# Altium footprint library Jumper.PcbLib: 27 footprints (part 1 of 2)
Each footprint in its own frame and in the unit in brackets; x right, y up, seen from the top. Pads: shape width x height; smd on the part's side, far side on the other; paste and mask are expansions set on the pad; w line width, h text height; cw(c..) or ccw(c..) is an arc to the next point about the centre after c.
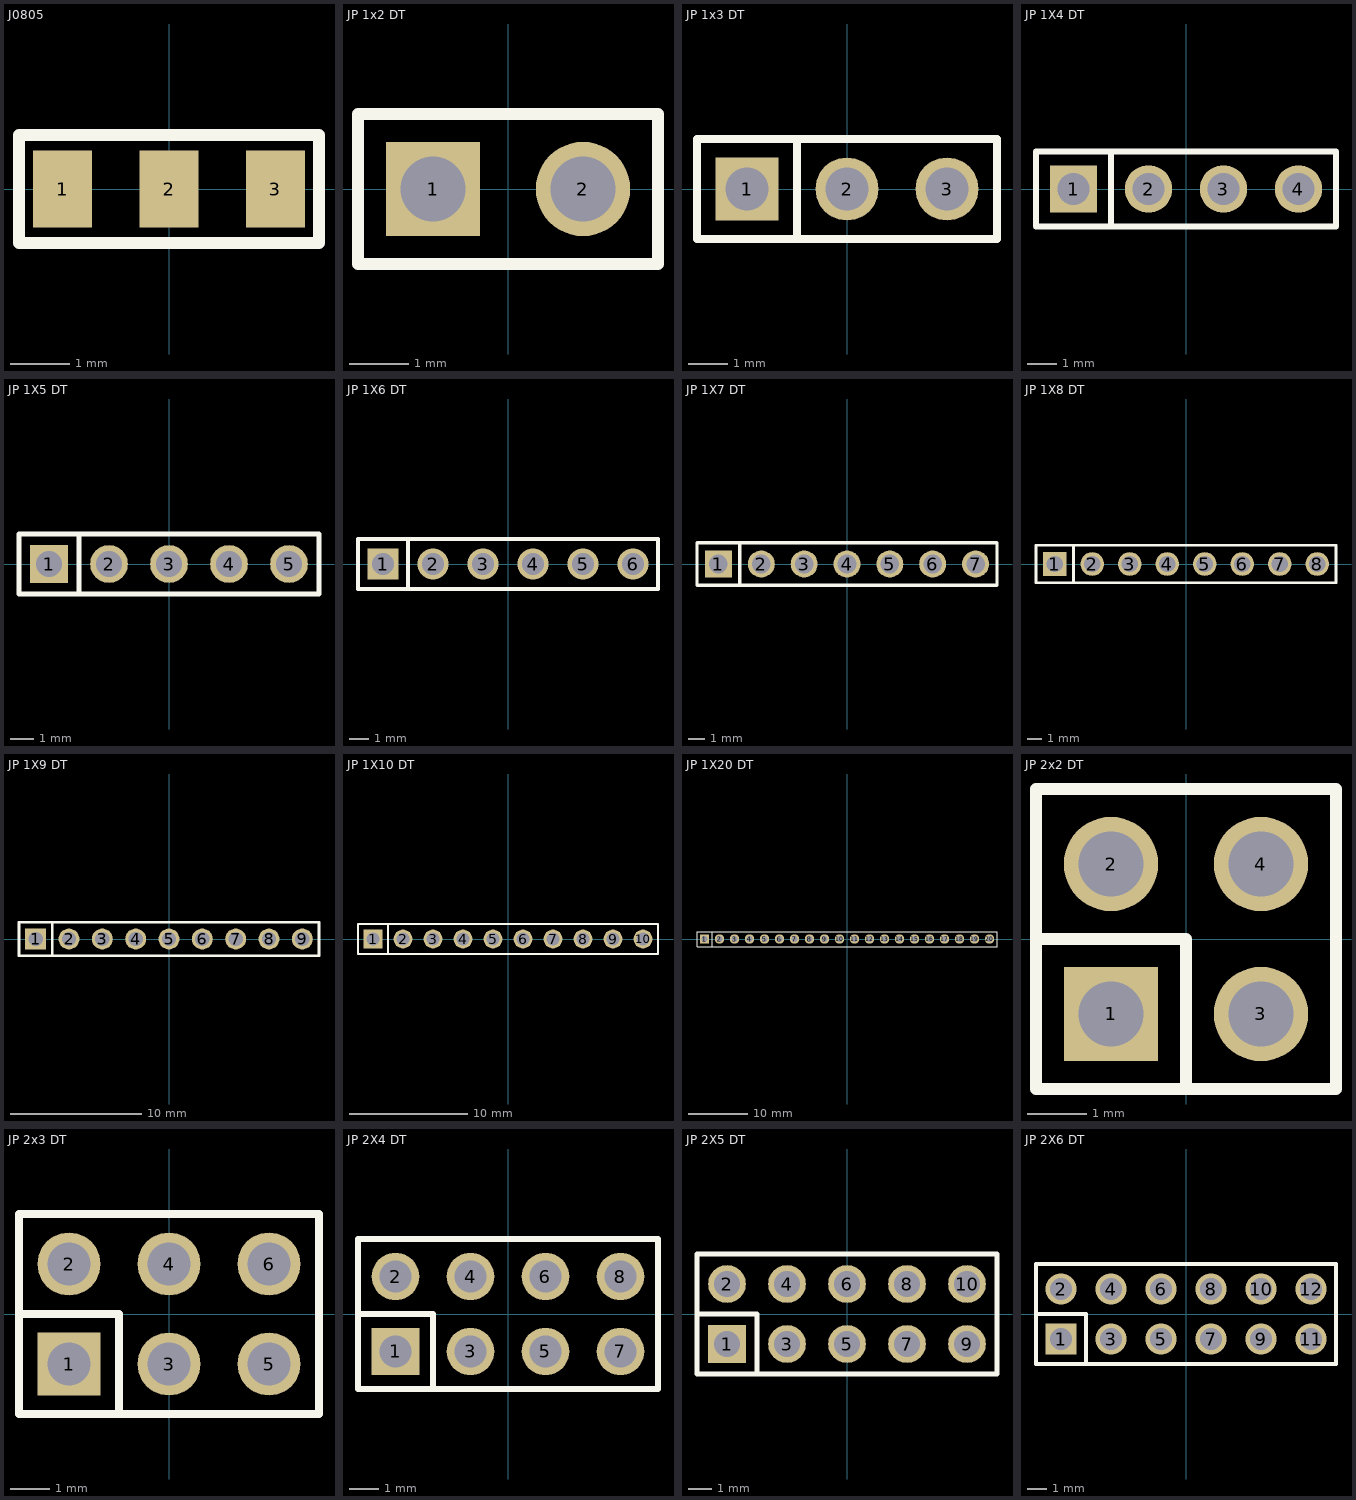
[diagram p0: the footprints below, top view; thin cyan lines are the x and y axes]

## J0805 [mm] "SMD"
pads (3):
  rect 1x1.3 smd: 1(-1.8,0) 2(0,0) 3(1.8,0)
Top Overlay:
  lines w0.203: -2.54,-0.914 2.54,-0.914 2.54,0.914 -2.54,0.914 -2.54,-0.914
3D body "R0805.step": height 0.5, standoff 0, extent -1.9,-0.625 0.1,0.625
3D body "R0805.step": height 0.5, standoff 0, extent -0.1,-0.625 1.9,0.625

## JP 1x2 DT [mm] "2 pins, 1 row, straight, gold plating"
height 8.54
pads (2):
  rect 1.6x1.6 hole 1.1: 1(-1.27,0)
  round 1.6 hole 1.1: 2(1.27,0)
Top Overlay:
  lines w0.2: -2.54,-1.27 2.54,-1.27 2.54,1.27 -2.54,1.27 -2.54,-1.27
3D body "61300211121.stp": height 8.67, standoff -2.87, extent -2.54,-1.27 2.54,1.27

## JP 1x3 DT [mm] "3 pins, 1 row, straight, gold plating"
height 8.54
pads (3):
  rect 1.6x1.6 hole 1.1: 1(-2.54,0)
  round 1.6 hole 1.1: 2(0,0) 3(2.54,0)
Top Overlay:
  lines w0.2: -1.27,-1.27 -1.27,1.27 ; -3.81,-1.27 -3.81,1.27 3.81,1.27 3.81,-1.27 -3.81,-1.27
3D body "61300311121.stp": height 8.67, standoff -2.87, extent -3.81,-1.27 3.81,1.27

## JP 1X4 DT [mm] "4 pins, 1 row, straight, gold plating"
height 8.54
pads (4):
  rect 1.6x1.6 hole 1.1: 1(-3.81,0)
  round 1.6 hole 1.1: 2(-1.27,0) 3(1.27,0) 4(3.81,0)
Top Overlay:
  lines w0.2: -2.54,-1.27 -2.54,1.27 ; -5.08,-1.27 -5.08,1.27 5.08,1.27 5.08,-1.27 -5.08,-1.27
3D body "61300411121.stp": height 8.67, standoff -2.87, extent -5.08,-1.27 5.08,1.27

## JP 1X5 DT [mm] "5 pins, 1 row, straight, gold plating"
height 8.54
pads (5):
  rect 1.6x1.6 hole 1.1: 1(-5.08,0)
  round 1.6 hole 1.1: 2(-2.54,0) 3(0,0) 4(2.54,0) 5(5.08,0)
Top Overlay:
  lines w0.2: -3.81,-1.27 -3.81,1.27 ; -6.35,-1.27 -6.35,1.27 6.35,1.27 6.35,-1.27 -6.35,-1.27
3D body "61300511121.stp": height 8.67, standoff -2.87, extent -6.35,-1.27 6.35,1.27

## JP 1X6 DT [mm] "6 pins, 1 row, straight, gold plating"
height 8.54
pads (6):
  rect 1.6x1.6 hole 1.1: 1(-6.35,0)
  round 1.6 hole 1.1: 2(-3.81,0) 3(-1.27,0) 4(1.27,0) 5(3.81,0) 6(6.35,0)
Top Overlay:
  lines w0.2: -5.08,-1.27 -5.08,1.27 ; -7.62,-1.27 -7.62,1.27 7.62,1.27 7.62,-1.27 -7.62,-1.27
3D body "61300611121.stp": height 8.67, standoff -2.87, extent -7.62,-1.27 7.62,1.27

## JP 1X7 DT [mm] "7 pins, 1 row, straight, gold plating"
height 8.54
pads (7):
  rect 1.6x1.6 hole 1.1: 1(-7.62,0)
  round 1.6 hole 1.1: 2(-5.08,0) 3(-2.54,0) 4(0,0) 5(2.54,0) 6(5.08,0) 7(7.62,0)
Top Overlay:
  lines w0.2: -6.35,-1.27 -6.35,1.27 ; -8.89,-1.27 -8.89,1.27 8.89,1.27 8.89,-1.27 -8.89,-1.27
3D body "61300711121.stp": height 8.67, standoff -2.87, extent -8.89,-1.27 8.89,1.27

## JP 1X8 DT [mm] "8 pins, 1 row, straight, gold plating"
height 8.54
pads (8):
  rect 1.6x1.6 hole 1.1: 1(-8.89,0)
  round 1.6 hole 1.1: 2(-6.35,0) 3(-3.81,0) 4(-1.27,0) 5(1.27,0) 6(3.81,0) 7(6.35,0) 8(8.89,0)
Top Overlay:
  lines w0.2: -7.62,-1.27 -7.62,1.27 ; -10.16,-1.27 10.16,-1.27 10.16,1.27 -10.16,1.27 -10.16,-1.27
3D body "61300811121.stp": height 8.67, standoff -2.87, extent -10.16,-1.27 10.16,1.27

## JP 1X9 DT [mm] "9 pins, 1 row, straight, gold plating"
height 8.54
pads (9):
  rect 1.6x1.6 hole 1.1: 1(-10.16,0)
  round 1.6 hole 1.1: 2(-7.62,0) 3(-5.08,0) 4(-2.54,0) 5(0,0) 6(2.54,0) 7(5.08,0) 8(7.62,0) 9(10.16,0)
Top Overlay:
  lines w0.2: -8.89,-1.27 -8.89,1.27 ; -11.43,-1.27 11.43,-1.27 11.43,1.27 -11.43,1.27 -11.43,-1.27
3D body "61300911121.stp": height 8.67, standoff -2.87, extent -11.43,-1.27 11.43,1.27

## JP 1X10 DT [mm] "10 pins, 1 row, straight, gold plating"
height 8.54
pads (10):
  rect 1.6x1.6 hole 1.1: 1(-11.43,0)
  round 1.6 hole 1.1: 2(-8.89,0) 3(-6.35,0) 4(-3.81,0) 5(-1.27,0) 6(1.27,0) 7(3.81,0) 8(6.35,0) 9(8.89,0) 10(11.43,0)
Top Overlay:
  lines w0.2: -10.16,-1.27 -10.16,1.27 ; -12.7,-1.27 -12.7,1.27 -10.795,1.27 12.7,1.27 12.7,-1.27 -12.7,-1.27
3D body "61301011121.stp": height 8.67, standoff -2.87, extent -12.7,-1.27 12.7,1.27

## JP 1X20 DT [mm] "20 pins, 1 row, straight, gold plating"
height 8.54
pads (20):
  rect 1.6x1.6 hole 1.1: 1(-24.13,0)
  round 1.6 hole 1.1: 2(-21.59,0) 3(-19.05,0) 4(-16.51,0) 5(-13.97,0) 6(-11.43,0) 7(-8.89,0) 8(-6.35,0) 9(-3.81,0) 10(-1.27,0) 11(1.27,0) 12(3.81,0) 13(6.35,0) 14(8.89,0) 15(11.43,0) 16(13.97,0) 17(16.51,0) 18(19.05,0) 19(21.59,0) 20(24.13,0)
Top Overlay:
  lines w0.2: -22.86,-1.27 -22.86,1.27 ; -25.4,-1.27 25.4,-1.27 25.4,1.27 -23.495,1.27 -25.4,1.27 -25.4,-1.27
3D body "61302011121.stp": height 8.67, standoff -2.87, extent -25.4,-1.27 25.4,1.27

## JP 2x2 DT [mm] "4 pins, dual pin, straight, gold plating"
height 8.54
pads (4):
  rect 1.6x1.6 hole 1.1: 1(-1.27,-1.27)
  round 1.6 hole 1.1: 2(-1.27,1.27) 3(1.27,-1.27) 4(1.27,1.27)
Top Overlay:
  lines w0.2: -2.54,0 0,0 0,-2.54 ; -2.54,-2.54 2.54,-2.54 2.54,2.54 -2.54,2.54 -2.54,-2.54
3D body "61300421121.stp": height 8.67, standoff -2.87, extent -2.54,-2.54 2.54,2.54

## JP 2x3 DT [mm] "6 pins, dual pin, straight, gold plating"
height 8.54
pads (6):
  rect 1.6x1.6 hole 1.1: 1(-2.54,-1.27)
  round 1.6 hole 1.1: 2(-2.54,1.27) 3(0,-1.27) 4(0,1.27) 5(2.54,-1.27) 6(2.54,1.27)
Top Overlay:
  lines w0.2: -3.81,0 -1.27,0 -1.27,-2.54 ; -3.81,-2.54 3.81,-2.54 3.81,2.54 -3.81,2.54 -3.81,-2.54
3D body "61300621121.stp": height 8.67, standoff -2.87, extent -3.81,-2.54 3.81,2.54

## JP 2X4 DT [mm] "8 pins, dual pin, straight, gold plating"
height 8.54
pads (8):
  rect 1.61x1.6 hole 1.1: 1(-3.81,-1.27)
  oval 1.61x1.6 hole 1.1: 2(-3.81,1.27) 3(-1.27,-1.27) 4(-1.27,1.27) 5(1.27,-1.27) 6(1.27,1.27) 7(3.81,-1.27) 8(3.81,1.27)
Top Overlay:
  lines w0.2: -5.08,0 -2.54,0 -2.54,-2.54 ; -5.08,-2.54 5.08,-2.54 5.08,2.54 -5.08,2.54 -5.08,-2.54
3D body "61300821121.stp": height 8.67, standoff -2.87, extent -5.08,-2.54 5.08,2.54

## JP 2X5 DT [mm] "10 pins, dual pin, straight, gold plating"
height 8.54
pads (10):
  rect 1.6x1.6 hole 1.1: 1(-5.08,-1.27)
  round 1.6 hole 1.1: 2(-5.08,1.27) 3(-2.54,-1.27) 4(-2.54,1.27) 5(0,-1.27) 6(0,1.27) 7(2.54,-1.27) 8(2.54,1.27) 9(5.08,-1.27) 10(5.08,1.27)
Top Overlay:
  lines w0.2: -6.35,0 -3.81,0 -3.81,-2.54 ; -6.35,-2.54 6.35,-2.54 6.35,2.54 -1.27,2.54 -6.35,2.54 -6.35,-2.54
3D body "61301021121.stp": height 8.67, standoff -2.87, extent -6.35,-2.54 6.35,2.54

## JP 2X6 DT [mm] "12 pins, dual pin, straight, gold plating"
height 8.54
pads (12):
  rect 1.6x1.6 hole 1.1: 1(-6.35,-1.27)
  round 1.6 hole 1.1: 2(-6.35,1.27) 3(-3.81,-1.27) 4(-3.81,1.27) 5(-1.27,-1.27) 6(-1.27,1.27) 7(1.27,-1.27) 8(1.27,1.27) 9(3.81,-1.27) 10(3.81,1.27) 11(6.35,-1.27) 12(6.35,1.27)
Top Overlay:
  lines w0.2: -7.62,0 -5.08,0 -5.08,-2.54 ; -7.62,-2.54 -7.62,2.54 7.62,2.54 7.62,-2.54 -7.62,-2.54
3D body "61301221121.stp": height 8.67, standoff -2.87, extent -7.62,-2.54 7.62,2.54